# EAGLE library part PTH78020-SMD (library PTN78020)
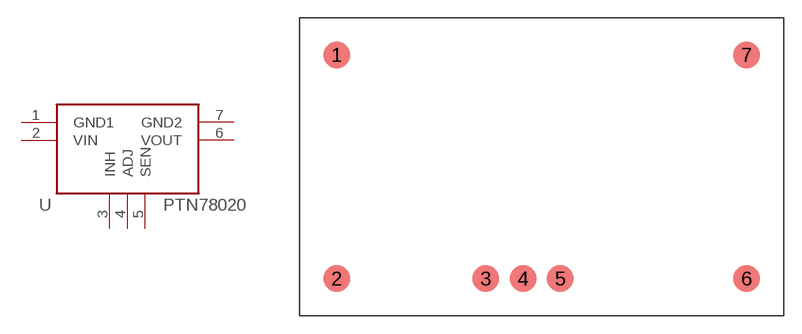
[diagram p1: symbol with the pads of PTN78020-SND; footprint PTN78020-SND]

Designator prefix -

## PTH78020-SMD  [PTN78020-SND]
1  GND1
2  VIN
3  INH
4  ADJ
5  SEN
6  VOUT
7  GND2

## Footprint PTN78020-SND (pad centres in mm)
smd 2.286 x 2.286: 1 -17.462,9.525; 2 -17.462,-9.525; 3 -4.763,-9.525; 4 -1.587,-9.525; 5 1.587,-9.525; 6 17.462,-9.525; 7 17.462,9.525